# Altium schematic symbol library PIC(18)pin.SchLib: 1 symbol
Pins are listed as number, name and electrical type; pins without a type are passive.

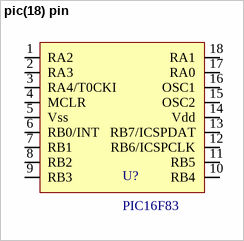
[diagram p0: symbol pic(18) pin]

## pic(18) pin
designator U?, comment PIC16F83
footprint pic16F54
pins: 1 RA2, 2 RA3, 3 RA4/T0CKI, 4 MCLR, 5 Vss, 6 RB0/INT, 7 RB1, 8 RB2, 9 RB3, 10 RB4, 11 RB5, 12 RB6/ICSPCLK, 13 RB7/ICSPDAT, 14 Vdd, 15 OSC2, 16 OSC1, 17 RA0, 18 RA1